# Altium footprint library Tracks.PcbLib: 13 footprints
Each footprint in its own frame and in the unit in brackets; x right, y up, seen from the top. Pads: shape width x height; smd on the part's side, far side on the other; paste and mask are expansions set on the pad; w line width, h text height; cw(c..) or ccw(c..) is an arc to the next point about the centre after c.
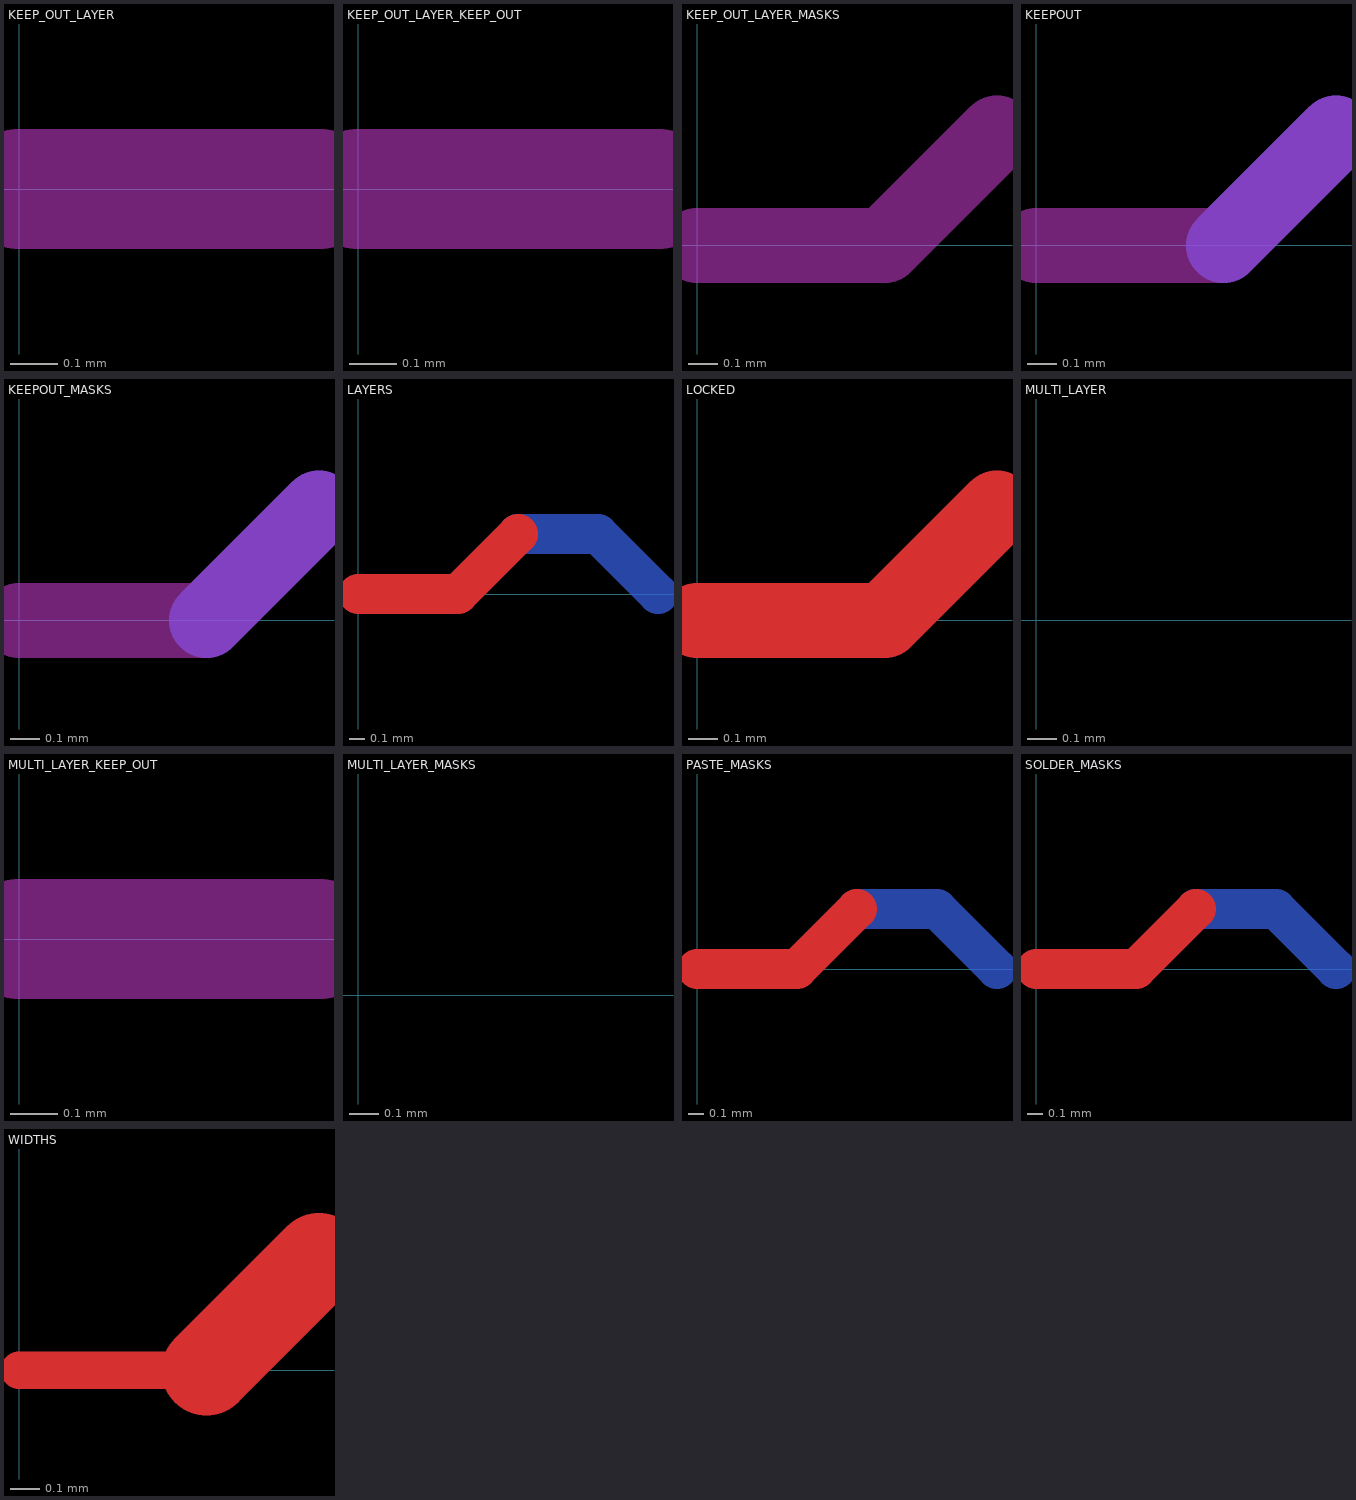
[diagram p0: the footprints below, top view; thin cyan lines are the x and y axes]

## KEEP_OUT_LAYER [mm]
Keep-Out Layer:
  lines w0.254: 0,0 0.635,0

## KEEP_OUT_LAYER_KEEP_OUT [mm]
Keep-Out Layer:
  lines w0.254: 0,0 0.635,0

## KEEP_OUT_LAYER_MASKS [mm]
Keep-Out Layer:
  lines w0.254: 0,0 0.635,0 1.016,0.381

## KEEPOUT [mm]
Top Layer keep-out:
  lines w0.254: 0,0 0.635,0
Bottom Layer keep-out:
  lines w0.254: 0.635,0 1.016,0.381

## KEEPOUT_MASKS [mm]
Top Layer keep-out:
  lines w0.254: 0,0 0.635,0
Bottom Layer keep-out:
  lines w0.254: 0.635,0 1.016,0.381

## LAYERS [mm]
Top Layer:
  lines w0.254: 0,0 0.635,0 1.016,0.381
Bottom Layer:
  lines w0.254: 1.016,0.381 1.524,0.381 1.905,0

## LOCKED [mm]
Top Layer:
  lines w0.254: 0,0 0.635,0 1.016,0.381

## MULTI_LAYER [mm]
Multi-Layer:
  lines w0.254: 0,0 0.635,0 1.016,0.381

## MULTI_LAYER_KEEP_OUT [mm]
Multi-Layer keep-out:
  lines w0.254: 0,0 0.635,0

## MULTI_LAYER_MASKS [mm]
Multi-Layer:
  lines w0.254: 0,0 0.635,0 1.016,0.381

## PASTE_MASKS [mm]
Top Layer:
  lines w0.254: 0,0 0.635,0 1.016,0.381
Bottom Layer:
  lines w0.254: 1.016,0.381 1.524,0.381 1.905,0

## SOLDER_MASKS [mm]
Top Layer:
  lines w0.254: 0,0 0.635,0 1.016,0.381
Bottom Layer:
  lines w0.254: 1.016,0.381 1.524,0.381 1.905,0

## WIDTHS [mm]
Top Layer:
  lines w0.127: 0,0 0.635,0
  lines w0.305: 0.635,0 1.016,0.381